# Altium footprint library SMD Diodes.PcbLib: 21 footprints (part 2 of 2)
Each footprint in its own frame and in the unit in brackets; x right, y up, seen from the top. Pads: shape width x height; smd on the part's side, far side on the other; paste and mask are expansions set on the pad; w line width, h text height; cw(c..) or ccw(c..) is an arc to the next point about the centre after c.
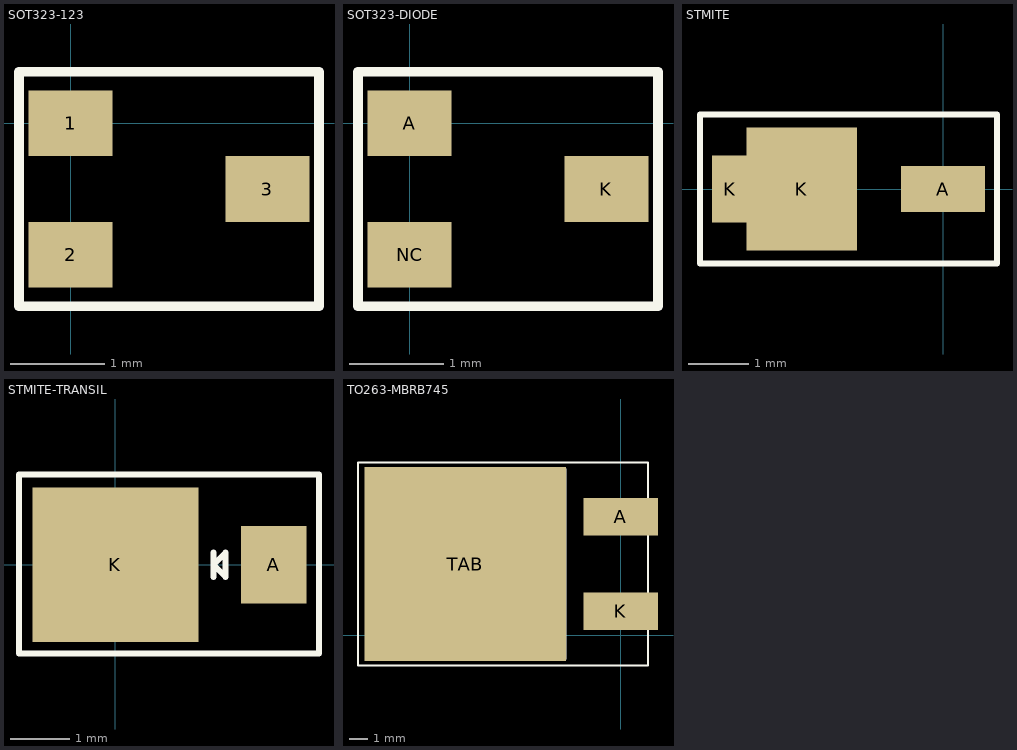
[diagram p1: the footprints below, top view; thin cyan lines are the x and y axes]

## SOT323-123 [mm] "SOT23 WITH A/K PIN NUMBERS"
pads (3):
  rect 0.9x0.7 smd: 1(0,0) 2(0,-1.4) 3(2.1,-0.7)
Top Overlay:
  lines w0.102: -0.55,-1.95 2.65,-1.95 2.65,0.55 -0.55,0.55 -0.55,-1.95
3D body: height 1.33, standoff 1.3, extent 0.636,0.077 0.888,0.33
3D body: height 0.22, standoff 0, extent -0.102,-1.608 0.127,-1.202
3D body: height 0.62, standoff 0, extent 0.064,-1.608 0.292,-1.202
3D body: height 0.62, standoff 0.4, extent 0.279,-1.608 0.457,-1.202
3D body: height 0.62, standoff 0.4, extent 0.279,-0.203 0.457,0.203
3D body: height 0.62, standoff 0, extent 0.064,-0.203 0.292,0.203
3D body: height 0.22, standoff 0, extent -0.102,-0.203 0.127,0.203
3D body: height 1.3, standoff 0.1, extent 0.457,-1.875 1.65,0.475
3D body: height 0.62, standoff 0.4, extent 1.628,-0.918 1.806,-0.512
3D body: height 0.62, standoff 0, extent 1.793,-0.918 2.022,-0.512
3D body: height 0.22, standoff 0, extent 1.958,-0.918 2.187,-0.512

## SOT323-DIODE [mm] "SOT23 WITH A/K PIN NUMBERS"
pads (3):
  rect 0.9x0.7 smd: A(0,0) K(2.1,-0.7) NC(0,-1.4)
Top Overlay:
  lines w0.102: -0.55,-1.95 2.65,-1.95 2.65,0.55 -0.55,0.55 -0.55,-1.95
3D body: height 1.33, standoff 1.3, extent 0.636,0.077 0.888,0.33
3D body: height 0.22, standoff 0, extent -0.102,-1.608 0.127,-1.202
3D body: height 0.62, standoff 0, extent 0.064,-1.608 0.292,-1.202
3D body: height 0.62, standoff 0.4, extent 0.279,-1.608 0.457,-1.202
3D body: height 0.62, standoff 0.4, extent 0.279,-0.203 0.457,0.203
3D body: height 0.62, standoff 0, extent 0.064,-0.203 0.292,0.203
3D body: height 0.22, standoff 0, extent -0.102,-0.203 0.127,0.203
3D body: height 1.3, standoff 0.1, extent 0.457,-1.875 1.65,0.475
3D body: height 0.62, standoff 0.4, extent 1.628,-0.918 1.806,-0.512
3D body: height 0.62, standoff 0, extent 1.793,-0.918 2.022,-0.512
3D body: height 0.22, standoff 0, extent 1.958,-0.918 2.187,-0.512

## STMITE [mm]
pads (3):
  rect 1.38x0.75 smd: A(0,0)
  rect 0.6x1.1 smd: K(-3.5,0)
  rect 1.82x2.03 smd: K(-2.325,0)
Top Overlay:
  lines w0.102: -4,-1.225 0.889,-1.225 0.889,1.225 -4,1.225 -4,-1.225
3D body: height 0.7, standoff 0, extent -0.725,-0.25 -0.6,0.25
3D body: height 0.7, standoff 0.5, extent -1.363,-0.25 -0.6,0.25
3D body: height 0.2, standoff 0, extent -0.6,-0.25 0.2,0.25
3D body: height 0.2, standoff 0, extent -3.725,-0.5 -3.225,0.5
3D body: height 1, standoff 0, extent -3.225,-0.95 -1.325,0.95
3D body: height 0.5, standoff 0, extent -3,-0.975 -1.6,-0.95
3D body: height 0.5, standoff 0, extent -3,0.95 -1.6,0.975

## STMITE-TRANSIL [mm]
pads (2):
  rect 1.1x1.3 smd: A(2.667,0)
  rect 2.8x2.6 smd: K(-0.001,0)
Top Overlay:
  lines w0.102: 1.651,-0.203 1.651,0 ; 1.651,0.203 1.651,0 ; 1.854,-0.025 1.854,0.203 1.651,0 ; 1.854,0.025 1.854,-0.203 1.651,0 ; -1.626,-1.499 3.429,-1.499 3.429,1.524 -1.626,1.524 -1.626,-1.499
3D body: height 0.7, standoff 0, extent 1.95,-0.25 2.075,0.25
3D body: height 0.7, standoff 0.5, extent 1.312,-0.25 2.075,0.25
3D body: height 0.2, standoff 0, extent 2.075,-0.25 2.875,0.25
3D body: height 0.2, standoff 0, extent -1.05,-0.5 -0.55,0.5
3D body: height 1, standoff 0, extent -0.55,-0.95 1.35,0.95
3D body: height 0.5, standoff 0, extent -0.325,-0.975 1.075,-0.95
3D body: height 0.5, standoff 0, extent -0.325,0.95 1.075,0.975

## TO263-MBRB745 [mm]
pads (3):
  rect 4x2 smd: A(0,6.35) K(0,1.27)
  rect 10.795x10.414 smd: TAB(-8.331,3.81)
Top Overlay:
  lines w0.102: -11.252,-1.27 -11.252,8.89 ; -10.871,-1.27 -10.871,8.89 ; -14.072,-1.626 1.473,-1.626 1.473,9.246 -14.072,9.246 -14.072,-1.626 ; -12.852,0.33 -12.268,-1.27 -2.946,-1.27 -2.946,8.89 -12.268,8.89 -12.852,7.29 -12.852,0.33